# Altium schematic symbol library eagle-ltspice.SCHLIB: 37 symbols
Pins are listed as number, name and electrical type; pins without a type are passive.

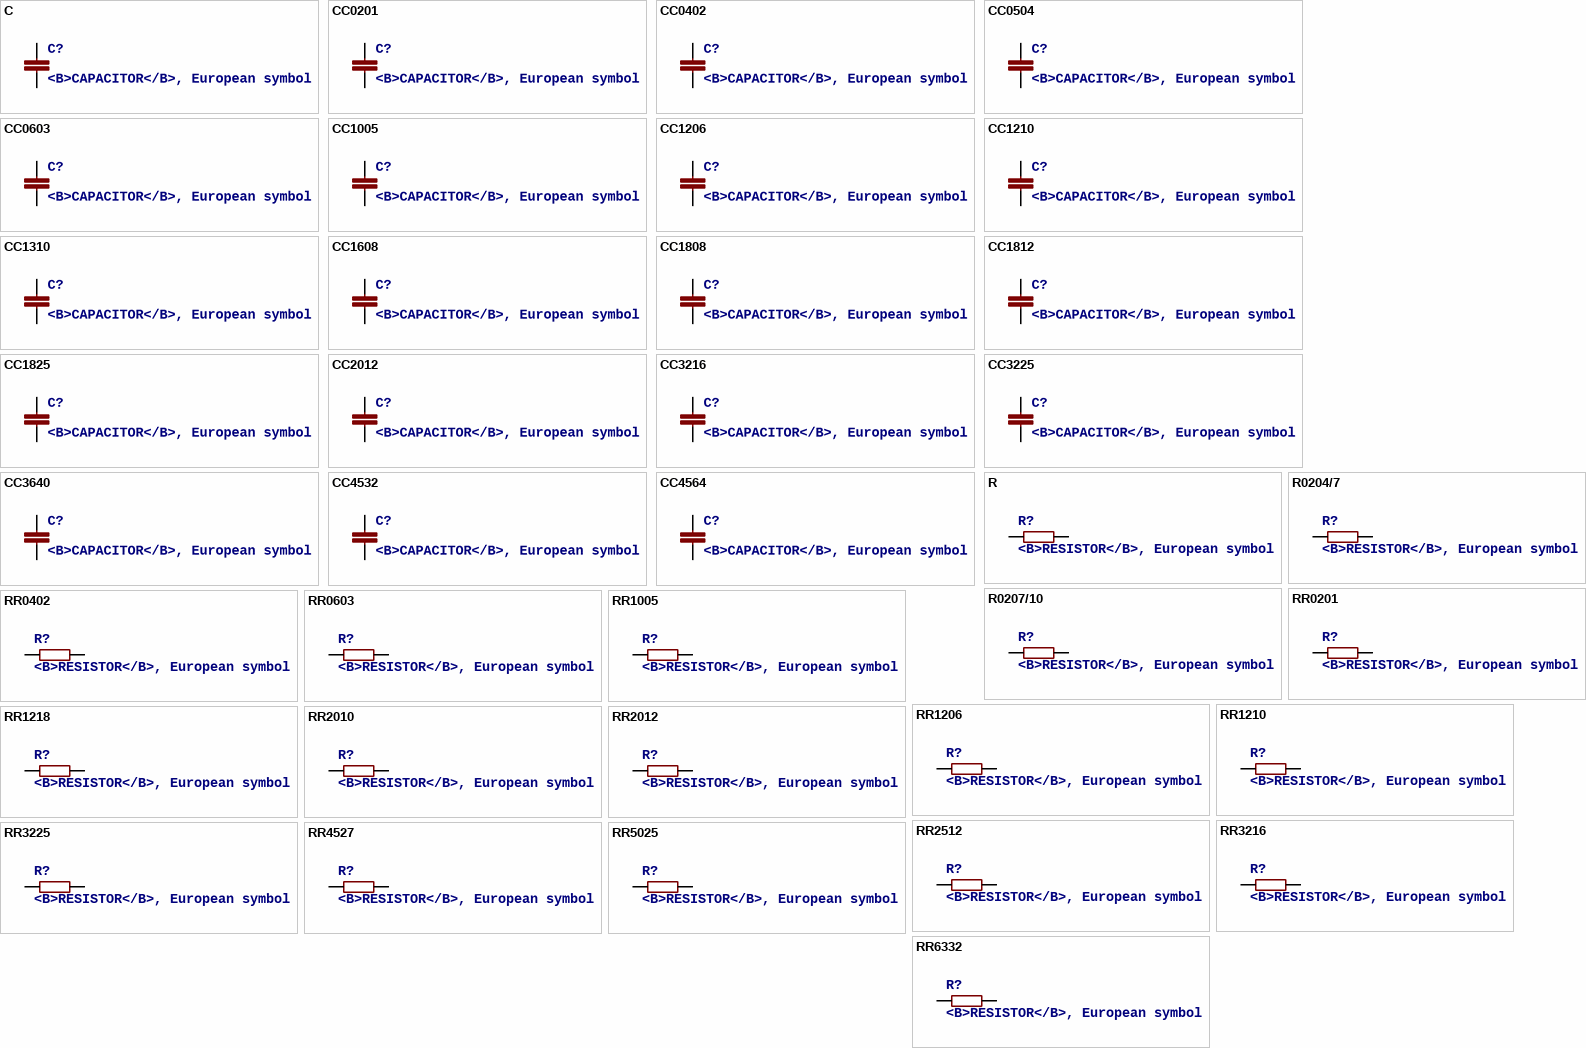
[diagram p0: symbols C to RR6332]

## C
designator C?, comment <B>CAPACITOR</B>, European symbol
SPICEMODEL: NONE; SPICEPREFIX: C
footprint C0805
pins: 1, 2

## CC0201
designator C?, comment <B>CAPACITOR</B>, European symbol
SPICEMODEL: NONE; SPICEPREFIX: C
footprint C0201
pins: 1, 2

## CC0402
designator C?, comment <B>CAPACITOR</B>, European symbol
SPICEMODEL: NONE; SPICEPREFIX: C
footprint C0402
pins: 1, 2

## CC0504
designator C?, comment <B>CAPACITOR</B>, European symbol
SPICEMODEL: NONE; SPICEPREFIX: C
footprint C0504
pins: 1, 2

## CC0603
designator C?, comment <B>CAPACITOR</B>, European symbol
SPICEMODEL: NONE; SPICEPREFIX: C
footprint C0603
pins: 1, 2

## CC1005
designator C?, comment <B>CAPACITOR</B>, European symbol
SPICEMODEL: NONE; SPICEPREFIX: C
footprint C1005
pins: 1, 2

## CC1206
designator C?, comment <B>CAPACITOR</B>, European symbol
SPICEMODEL: NONE; SPICEPREFIX: C
footprint C1206
pins: 1, 2

## CC1210
designator C?, comment <B>CAPACITOR</B>, European symbol
SPICEMODEL: NONE; SPICEPREFIX: C
footprint C1210
pins: 1, 2

## CC1310
designator C?, comment <B>CAPACITOR</B>, European symbol
SPICEMODEL: NONE; SPICEPREFIX: C
footprint C1310
pins: 1, 2

## CC1608
designator C?, comment <B>CAPACITOR</B>, European symbol
SPICEMODEL: NONE; SPICEPREFIX: C
footprint C1608
pins: 1, 2

## CC1808
designator C?, comment <B>CAPACITOR</B>, European symbol
SPICEMODEL: NONE; SPICEPREFIX: C
footprint C1808
pins: 1, 2

## CC1812
designator C?, comment <B>CAPACITOR</B>, European symbol
SPICEMODEL: NONE; SPICEPREFIX: C
footprint C1812
pins: 1, 2

## CC1825
designator C?, comment <B>CAPACITOR</B>, European symbol
SPICEMODEL: NONE; SPICEPREFIX: C
footprint C1825
pins: 1, 2

## CC2012
designator C?, comment <B>CAPACITOR</B>, European symbol
SPICEMODEL: NONE; SPICEPREFIX: C
footprint C2012
pins: 1, 2

## CC3216
designator C?, comment <B>CAPACITOR</B>, European symbol
SPICEMODEL: NONE; SPICEPREFIX: C
footprint C3216
pins: 1, 2

## CC3225
designator C?, comment <B>CAPACITOR</B>, European symbol
SPICEMODEL: NONE; SPICEPREFIX: C
footprint C3225
pins: 1, 2

## CC3640
designator C?, comment <B>CAPACITOR</B>, European symbol
SPICEMODEL: NONE; SPICEPREFIX: C
footprint C3640
pins: 1, 2

## CC4532
designator C?, comment <B>CAPACITOR</B>, European symbol
SPICEMODEL: NONE; SPICEPREFIX: C
footprint C4532
pins: 1, 2

## CC4564
designator C?, comment <B>CAPACITOR</B>, European symbol
SPICEMODEL: NONE; SPICEPREFIX: C
footprint C4564
pins: 1, 2

## R
designator R?, comment <B>RESISTOR</B>, European symbol
SPICEMODEL: NONE; SPICEPREFIX: R
footprint R0805
pins: 1, 2

## R0204/7
designator R?, comment <B>RESISTOR</B>, European symbol
SPICEMODEL: NONE; SPICEPREFIX: R
footprint 0204/7
pins: 1, 2

## R0207/10
designator R?, comment <B>RESISTOR</B>, European symbol
SPICEMODEL: NONE; SPICEPREFIX: R
footprint 0207/10
pins: 1, 2

## RR0201
designator R?, comment <B>RESISTOR</B>, European symbol
SPICEMODEL: NONE; SPICEPREFIX: R
footprint R0201
pins: 1, 2

## RR0402
designator R?, comment <B>RESISTOR</B>, European symbol
SPICEMODEL: NONE; SPICEPREFIX: R
footprint R0402
pins: 1, 2

## RR0603
designator R?, comment <B>RESISTOR</B>, European symbol
SPICEMODEL: NONE; SPICEPREFIX: R
footprint R0603
pins: 1, 2

## RR1005
designator R?, comment <B>RESISTOR</B>, European symbol
SPICEMODEL: NONE; SPICEPREFIX: R
footprint R1005
pins: 1, 2

## RR1206
designator R?, comment <B>RESISTOR</B>, European symbol
SPICEMODEL: NONE; SPICEPREFIX: R
footprint R1206
pins: 1, 2

## RR1210
designator R?, comment <B>RESISTOR</B>, European symbol
SPICEMODEL: NONE; SPICEPREFIX: R
footprint R1210
pins: 1, 2

## RR1218
designator R?, comment <B>RESISTOR</B>, European symbol
SPICEMODEL: NONE; SPICEPREFIX: R
footprint R1218
pins: 1, 2

## RR2010
designator R?, comment <B>RESISTOR</B>, European symbol
SPICEMODEL: NONE; SPICEPREFIX: R
footprint R2010
pins: 1, 2

## RR2012
designator R?, comment <B>RESISTOR</B>, European symbol
SPICEMODEL: NONE; SPICEPREFIX: R
footprint R2012
pins: 1, 2

## RR2512
designator R?, comment <B>RESISTOR</B>, European symbol
SPICEMODEL: NONE; SPICEPREFIX: R
footprint R2512
pins: 1, 2

## RR3216
designator R?, comment <B>RESISTOR</B>, European symbol
SPICEMODEL: NONE; SPICEPREFIX: R
footprint R3216
pins: 1, 2

## RR3225
designator R?, comment <B>RESISTOR</B>, European symbol
SPICEMODEL: NONE; SPICEPREFIX: R
footprint R3225
pins: 1, 2

## RR4527
designator R?, comment <B>RESISTOR</B>, European symbol
SPICEMODEL: NONE; SPICEPREFIX: R
footprint R4527
pins: 1, 2

## RR5025
designator R?, comment <B>RESISTOR</B>, European symbol
SPICEMODEL: NONE; SPICEPREFIX: R
footprint R5025
pins: 1, 2

## RR6332
designator R?, comment <B>RESISTOR</B>, European symbol
SPICEMODEL: NONE; SPICEPREFIX: R
footprint R6332
pins: 1, 2